# EAGLE library part SHIFT_REGISTER (library word_clock)
8 bit serial to parallel shift register pull reset low, holds output low next bit is (A1 AND A2) - should pull one high to be safe, toggle the other
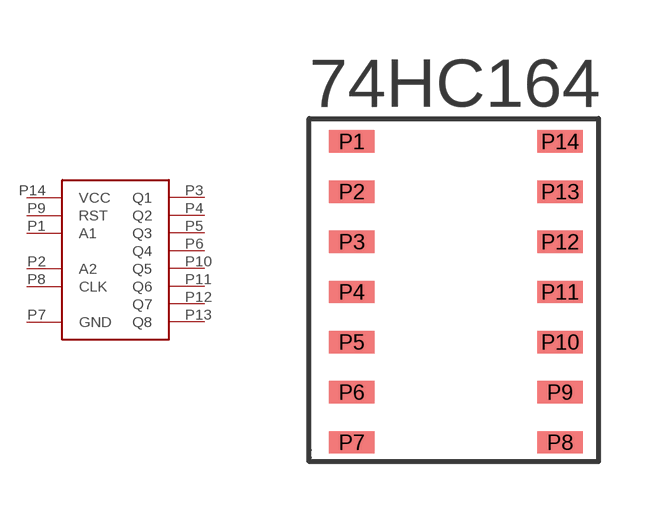
[diagram p0: symbol with the pads of SHIFT_REGISTER; footprint SHIFT_REGISTER]

Designator prefix -

## SHIFT_REGISTER  [SHIFT_REGISTER]
P1  A1
P2  A2
P3  Q1
P4  Q2
P5  Q3
P6  Q4
P7  GND
P8  CLK
P9  RST
P10  Q5
P11  Q6
P12  Q7
P13  Q8  out
P14  VCC

## Footprint SHIFT_REGISTER (pad centres in mm)
smd 1.18 x 0.58: P1 -2.7,3.9; P2 -2.7,2.6; P3 -2.7,1.3; P4 -2.7,0; P5 -2.7,-1.3; P6 -2.7,-2.6; P7 -2.7,-3.9; P8 2.7,-3.9; P9 2.7,-2.6; P10 2.7,-1.3; P11 2.7,0; P12 2.7,1.3; P13 2.7,2.6; P14 2.7,3.9